# Altium footprint library INF-TSFP-3-1_M.PcbLib: 1 footprints
Each footprint in its own frame and in the unit in brackets; x right, y up, seen from the top. Pads: shape width x height; smd on the part's side, far side on the other; paste and mask are expansions set on the pad; w line width, h text height; cw(c..) or ccw(c..) is an arc to the next point about the centre after c.
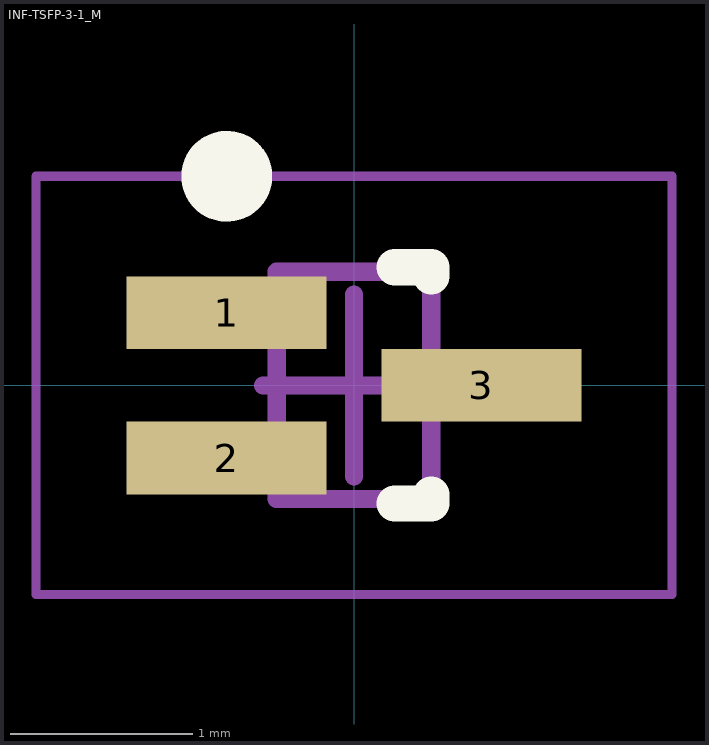
[diagram p0: the footprint, top view; thin cyan lines are the x and y axes]

## INF-TSFP-3-1_M [mm] "SOT23, 3-Leads, Body 1.2x0.8 mm, Pitch 0.4 mm, IPC Low Density"
height 0.4
pads (3):
  rect 1.1x0.4 smd: 1(-0.7,0.4) 2(-0.7,-0.4) 3(0.7,0)
Top Overlay:
  circle w0.25: c-0.7,1.15 r0.125
  lines w0.2: 0.225,-0.65 0.425,-0.65 0.425,-0.6 ; 0.225,0.65 0.425,0.65 0.425,0.6
Mechanical 13:
  lines w0.1: -0.425,-0.625 -0.425,0.625 0.425,0.625 0.425,-0.625 -0.425,-0.625
Mechanical 15:
  lines w0.05: -1.75,-1.15 -1.75,1.15 1.75,1.15 1.75,-1.15 -1.75,-1.15
  lines w0.1: -0.5,0 0.5,0 ; 0,-0.5 0,0.5
3D body: height 0.4, standoff 0.1, extent -0.425,-0.625 0.425,0.625